# EAGLE library part CORE-UNO (library Uno-Core)
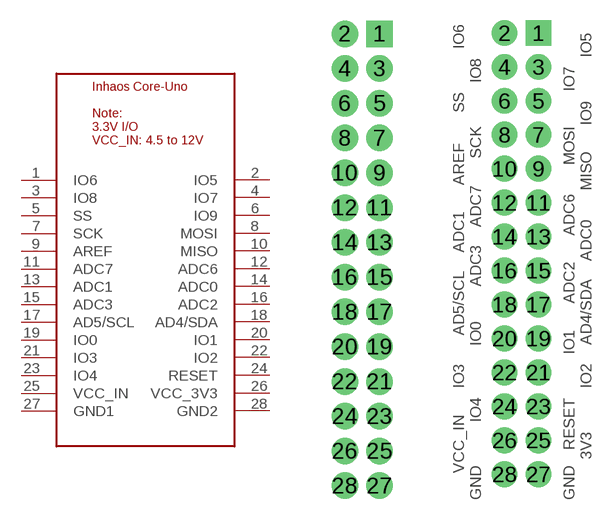
[diagram p0: symbol with the pads of CORE-UNO; footprints CORE-UNO, CORE-UNO-SYM2]

Designator prefix -

## CORE-UNO  [CORE-UNO]
1  IO6
2  IO5
3  IO8
4  IO7
5  SS
6  IO9
7  SCK
8  MOSI
9  AREF
10  MISO
11  ADC7
12  ADC6
13  ADC1
14  ADC0
15  ADC3
16  ADC2
17  AD5/SCL
18  AD4/SDA
19  IO0
20  IO1
21  IO3
22  IO2
23  IO4
24  RESET
25  VCC_IN
26  VCC_3V3
27  GND1
28  GND2

## CORE-UNOSYM2  [CORE-UNO-SYM2]
Pads as for CORE-UNO

## Footprint CORE-UNO (pad centres in mm)
drill 1.1 pad 1.93 square: 1 2.54,0
drill 1.1 pad 1.93: 2 0,0; 3 2.54,-2.54; 4 0,-2.54; 5 2.54,-5.08; 6 0,-5.08; 7 2.54,-7.62; 8 0,-7.62; 9 2.54,-10.16; 10 0,-10.16; 11 2.54,-12.7; 12 0,-12.7; 13 2.54,-15.24; 14 0,-15.24; 15 2.54,-17.78; 16 0,-17.78; 17 2.54,-20.32; 18 0,-20.32; 19 2.54,-22.86; 20 0,-22.86; 21 2.54,-25.4; 22 0,-25.4; 23 2.54,-27.94; 24 0,-27.94; 25 2.54,-30.48; 26 0,-30.48; 27 2.54,-33.02; 28 0,-33.02

## Footprint CORE-UNO-SYM2 (pad centres in mm)
drill 1 pad 1.93 square: 1 2.54,0
drill 1 pad 1.93: 2 0,0; 3 2.54,-2.54; 4 0,-2.54; 5 2.54,-5.08; 6 0,-5.08; 7 2.54,-7.62; 8 0,-7.62; 9 2.54,-10.16; 10 0,-10.16; 11 2.54,-12.7; 12 0,-12.7; 13 2.54,-15.24; 14 0,-15.24; 15 2.54,-17.78; 16 0,-17.78; 17 2.54,-20.32; 18 0,-20.32; 19 2.54,-22.86; 20 0,-22.86; 21 2.54,-25.4; 22 0,-25.4; 23 2.54,-27.94; 24 0,-27.94; 25 2.54,-30.48; 26 0,-30.48; 27 2.54,-33.02; 28 0,-33.02